# EAGLE library part KR140UD1208 (library ic-alfa-rpar)
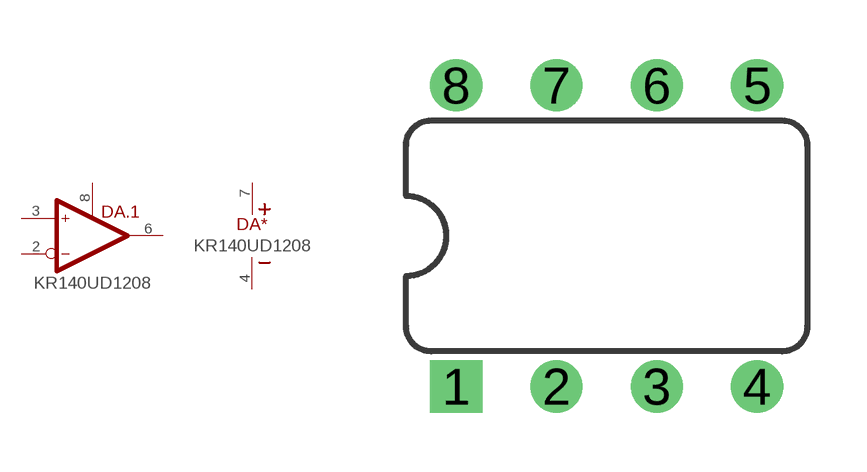
[diagram p0: symbol with the pads of DIP-8; footprint DIP-8]

Designator prefix DA; gates .1=OPAMP-ISET *=SUPPLY

## KR140UD1208  [DIP-8]
2  .1:IN-  in
3  .1:IN+  in
4  *:V-  pwr
6  .1:OUT  out
7  *:V+  pwr
8  .1:ISET

## Footprint DIP-8 (pad centres in mm)
drill 0.813 square: 1 -3.81,-3.81
drill 0.813: 2 -1.27,-3.81; 3 1.27,-3.81; 4 3.81,-3.81; 5 3.81,3.81; 6 1.27,3.81; 7 -1.27,3.81; 8 -3.81,3.81